# EAGLE library part LT5537* (library linear-technology-2)
Wide Dynamic Range RF/IF Log Detector
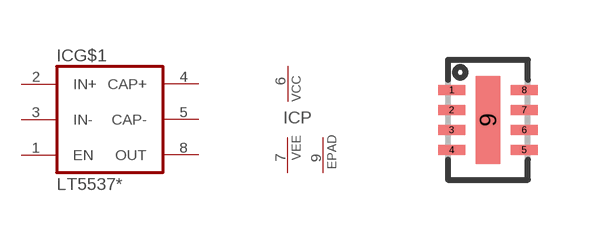
[diagram p49: symbol with the pads of DFN8; footprint DFN8]

Designator prefix IC; gates G$1=LT5537 P=PWRN-C-E-SH

## LT5537EDDB  [DFN8]
1  G$1:EN  in
2  G$1:IN+  in
3  G$1:IN-  in
4  G$1:CAP+  pas
5  G$1:CAP-  pas
6  P:VCC  pwr
7  P:VEE  pwr
8  G$1:OUT  out
9  P:CPAD  pas

## Footprint DFN8 (pad centres in mm)
smd 0.675 x 0.25: 1 -0.91,0.75; 2 -0.91,0.25; 3 -0.91,-0.25; 4 -0.91,-0.75; 5 0.91,-0.75; 6 0.91,-0.25; 7 0.91,0.25; 8 0.91,0.75
smd 0.61 x 2.2: 9 0,0